# Altium footprint library SS5GLD2.PcbLib: 1 footprints
Each footprint in its own frame and in the unit in brackets; x right, y up, seen from the top. Pads: shape width x height; smd on the part's side, far side on the other; paste and mask are expansions set on the pad; w line width, h text height; cw(c..) or ccw(c..) is an arc to the next point about the centre after c.
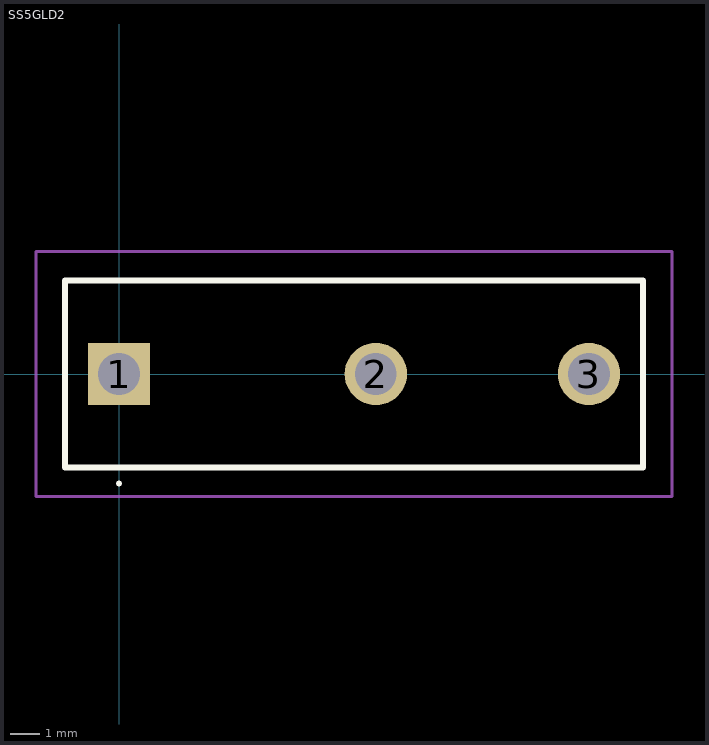
[diagram p0: the footprint, top view; thin cyan lines are the x and y axes]

## SS5GLD2 [mm]
pads (3):
  rect 2.138x2.138 hole 1.425: 1(0,0)
  round 2.138 hole 1.425: 2(8.8,0) 3(16.1,0)
Top Overlay:
  lines w0.1: 0,-3.8 0,-3.8 ; 0,-3.8 ccw(c0,-3.75) 0,-3.7 ; 0,-3.8 cw(c0,-3.75) 0,-3.7 ; 0,-3.7 0,-3.7
  lines w0.2: -1.85,-3.2 17.95,-3.2 17.95,3.2 -1.85,3.2 -1.85,-3.2
Mechanical 15:
  lines w0.1: -1.85,-3.2 17.95,-3.2 17.95,3.2 -1.85,3.2 -1.85,-3.2
Mechanical 20:
  lines w0.1: -2.85,-4.2 18.95,-4.2 18.95,4.2 -2.85,4.2 -2.85,-4.2